# Altium schematic symbol library PASSIVE.SchLib: 12 symbols
Pins are listed as number, name and electrical type; pins without a type are passive.

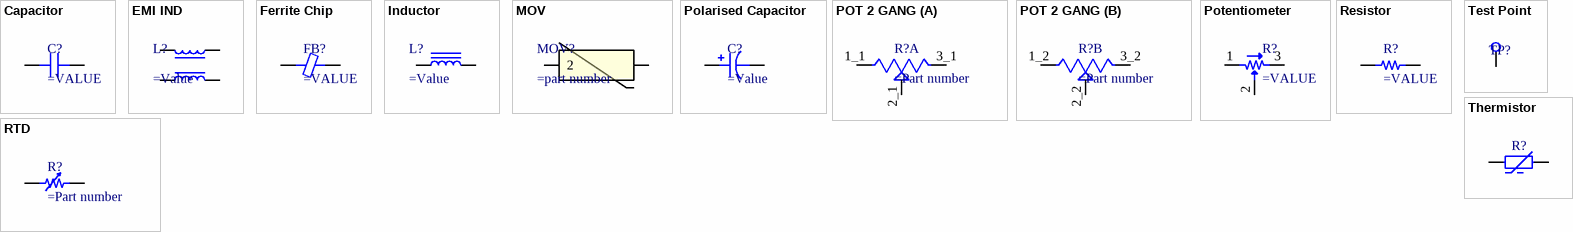
[diagram p0: symbols Capacitor to Thermistor]

## Capacitor
designator C?
SMT Capacitor
pins: 1, 2

## EMI IND
designator L?
SMT Inductor
pins: 1, 2, 3, 4

## Ferrite Chip
designator FB?
SMT Ferrite Chip
pins: 1, 2

## Inductor
designator L?
SMT Inductor
pins: 1, 2

## MOV
designator MOV?
pins: 1, 2

## Polarised Capacitor
designator C?
SMT Polarised Capacitor
pins: 1, 2

## POT 2 GANG
designator R?
part A pins: 1_1, 2_1, 3_1
part B pins: 1_2, 2_2, 3_2

## Potentiometer
designator R?
Potentiometer
pins: 1, 2, 3

## Resistor
designator R?
SMT Resistor
pins: 1, 2

## RTD
designator R?
SMT Resistor
pins: 1, 2

## Test Point
designator TP?  (value not drawn)
pins: 1 TP

## Thermistor
designator R?
SMT Resistor
pins: 1, 2